# EAGLE library part BMP280 (library bmp280)
Digital Pressure Sensor Source: Datasheet <https://datasheet.datasheetarchive.com/originals/distributors/DKDS-24/462913.pdf>
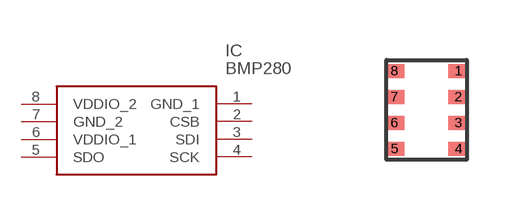
[diagram p0: symbol with the pads of 8-PIN-METAL-LID-LGA; footprint 8-PIN-METAL-LID-LGA]

Designator prefix IC

## BMP280 (Arrow_Part_Number: BMP280; Arrow_Price-Stock: https://www.arrow.com/en/products/bmp280/bosch?region=nac; Description: Digital Pressure Sensor; Height: mm; Manufacturer_Name: BOSCH; Manufacturer_Part_Number: bmp280; Mouser_Part_Number: 262-BMP280; Mouser_Price-Stock: https://www.mouser.co.uk/ProductDetail/Bosch-Sensortec/BMP280?qs=QhAb4EtQfbUP9Z%252BCHM3Wyg%3D%3D)  [8-PIN-METAL-LID-LGA]
1  GND_1  pwr
2  CSB  in
3  SDI
4  SCK
5  SDO
6  VDDIO_1  pwr
7  GND_2  pwr
8  VDDIO_2  pwr

## Footprint 8-PIN-METAL-LID-LGA (pad centres in mm)
8-pin metal-lid LGA
smd 0.5 x 0.35: 1 0.8,0.975; 2 0.8,0.325; 3 0.8,-0.325; 4 0.8,-0.975; 5 -0.8,-0.975; 6 -0.8,-0.325; 7 -0.8,0.325; 8 -0.8,0.975